# Altium footprint library Conv_buck_R0.PcbLib: 47 footprints (part 2 of 3)
Each footprint in its own frame and in the unit in brackets; x right, y up, seen from the top. Pads: shape width x height; smd on the part's side, far side on the other; paste and mask are expansions set on the pad; w line width, h text height; cw(c..) or ccw(c..) is an arc to the next point about the centre after c.
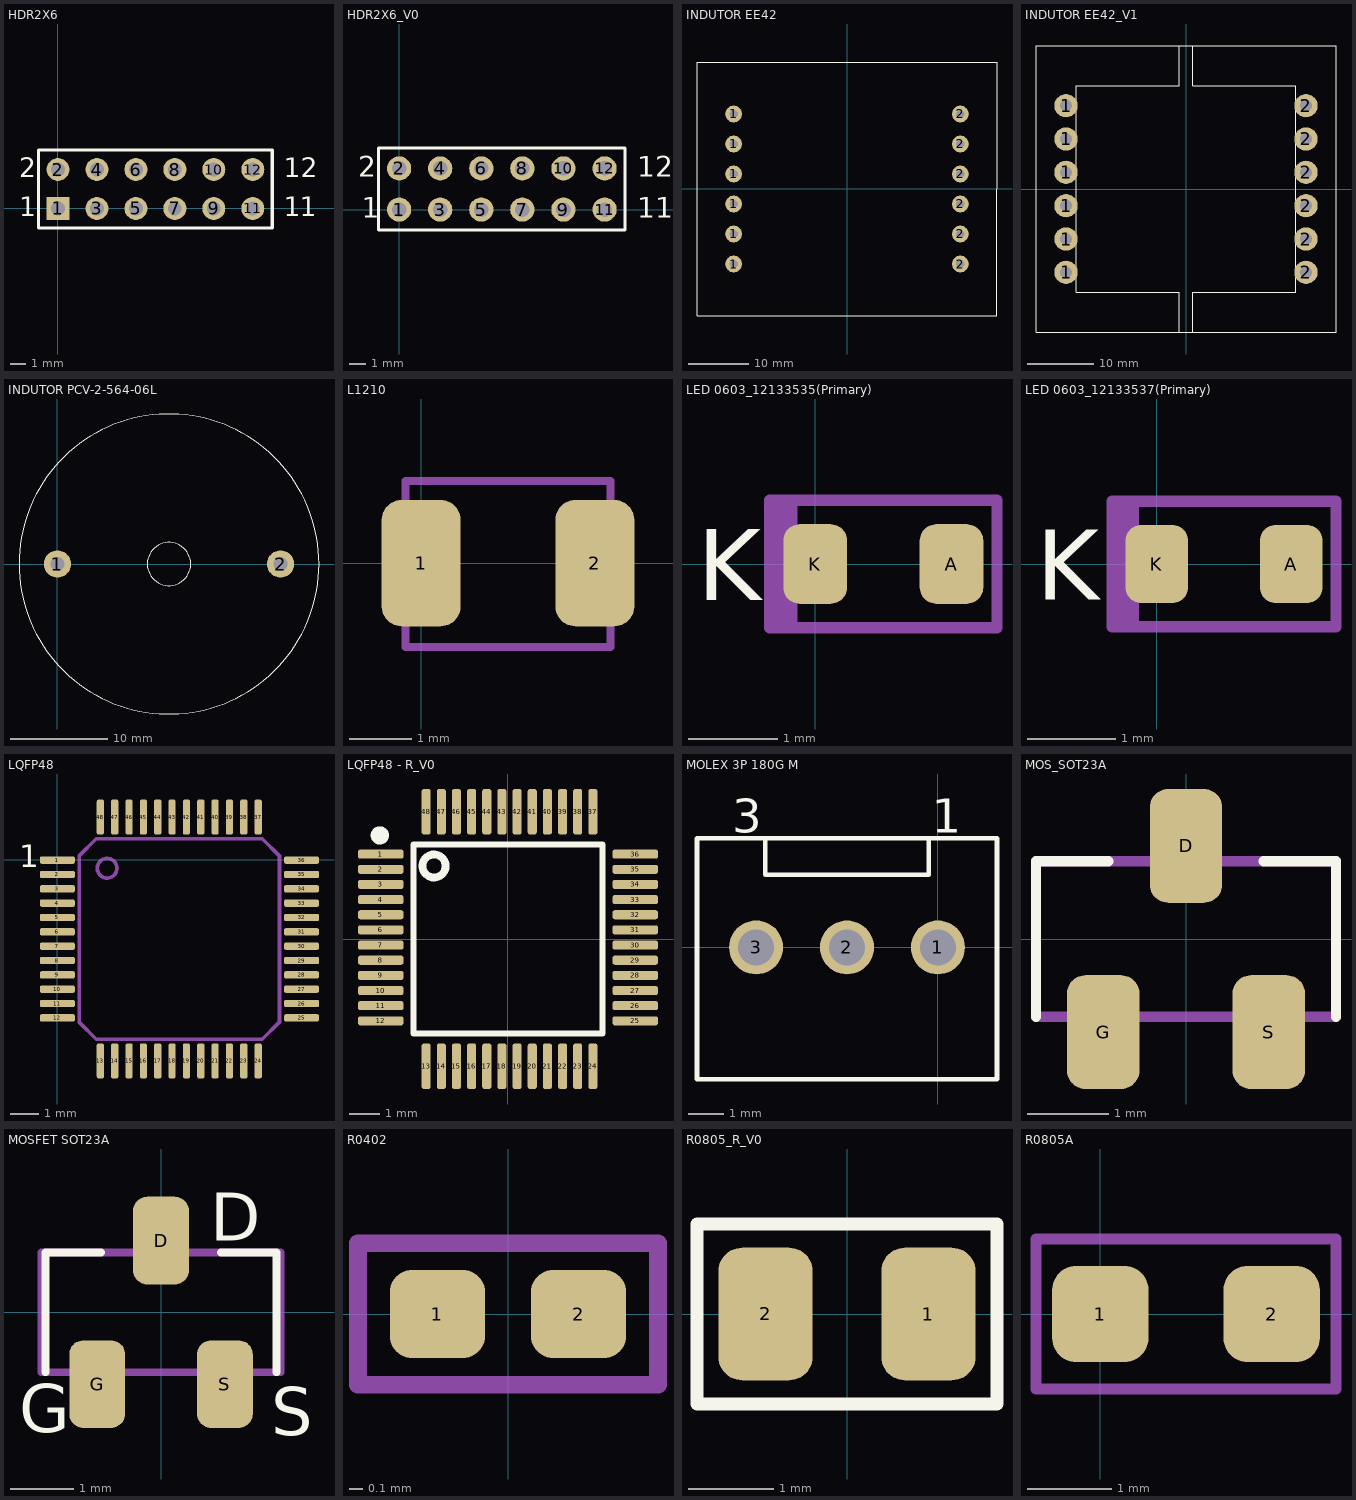
[diagram p1: the footprints below, top view; thin cyan lines are the x and y axes]

## HDR2X6 [mm] "Connector; Header; 6x2 Position"
pads (12):
  rect 1.5x1.5 hole 0.9: 1(0,0)
  round 1.5 hole 0.9: 2(0,2.54) 3(2.54,0) 4(2.54,2.54) 5(5.08,0) 6(5.08,2.54) 7(7.62,0) 8(7.62,2.54) 9(10.16,0) 10(10.16,2.54) 11(12.7,0) 12(12.7,2.54)
Top Overlay:
  lines w0.2: -1.27,-1.27 13.97,-1.27 13.97,3.81 -1.27,3.81 -1.27,-1.27
  text "12" at 14.732,2.032 h1.27
  text "1" at 15.748,-0.508 h1.27
  text "1" at 14.732,-0.508 h1.27
  text "1" at -2.54,-0.508 h1.27
  text "2" at -2.54,2.032 h1.27

## HDR2X6_V0 [mm] "Connector; Header; 6x2 Position"
pads (12):
  round 1.5 hole 0.9: 1(0,0) 2(0,2.54) 3(2.54,0) 4(2.54,2.54) 5(5.08,0) 6(5.08,2.54) 7(7.62,0) 8(7.62,2.54) 9(10.16,0) 10(10.16,2.54) 11(12.7,0) 12(12.7,2.54)
Top Overlay:
  lines w0.2: -1.27,-1.27 13.97,-1.27 13.97,3.81 -1.27,3.81 -1.27,-1.27
  text "12" at 14.732,2.032 h1.27
  text "11" at 14.732,-0.508 h1.27
  text "1" at -2.3,-0.5 h1.27
  text "2" at -2.54,2.032 h1.27
3D body: height 8.8, standoff -3, extent -1.22,-1.2 14.02,3.8

## INDUTOR EE42 [mm]
pads (12):
  round 2.794 hole 1.4: 1(-18.9,-12.5) 1(-18.9,-7.5) 1(-18.9,-2.5) 1(-18.9,2.5) 1(-18.9,7.5) 1(-18.9,12.5) 2(18.9,-12.5) 2(18.9,-7.5) 2(18.9,-2.5) 2(18.9,2.5) 2(18.9,7.5) 2(18.9,12.5)
Top Overlay:
  lines w0.127: -25,-21.1 25,-21.1 25,21.1 -25,21.1 -25,-21.1
3D body: height 25, standoff 10, extent -25,-21.1 25,21.1
3D body: height 34.97, standoff 5.03, extent -14,-14.982 14,14.9
3D body: height 35, standoff 2, extent -19.9,-15.6 -14.2,15.4
3D body: height 35, standoff 2, extent 14.2,-15.6 19.9,15.4

## INDUTOR EE42_V1 [mm]
pads (12):
  round 3.5 hole 1.8: 1(-18,-12.5) 1(-18,-7.5) 1(-18,-2.5) 1(-18,2.5) 1(-18,7.5) 1(-18,12.5) 2(18,-12.5) 2(18,-7.5) 2(18,-2.5) 2(18,2.5) 2(18,7.5) 2(18,12.5)
Top Overlay:
  lines w0.127: -11.5,21.5 -22.5,21.5 ; -1,-21.5 -1,-15.5 -16.5,-15.5 -16.5,15.5 -1,15.5 -1,21.5 ; 1,-21.5 1,-15.5 16.5,-15.5 16.5,15.5 1,15.5 1,21.5 ; -22.5,21.5 -22.5,-21.5 22.5,-21.5 22.5,21.5 -22.5,21.5
3D body: height 8, standoff -4, extent -18.25,-13 -17.75,-12
3D body: height 25, standoff 10, extent 1,-21.5 22.5,21.5
3D body: height 35, standoff 2, extent 14.2,-15.6 19.9,15.4
3D body: height 35, standoff 2, extent -19.9,-15.6 -14.2,15.4
3D body: height 32.49, standoff 7.51, extent -14,-12.514 14,12.486
3D body: height 25, standoff 10, extent -22.5,-21.5 -1,21.5
3D body: height 8, standoff -4, extent -18.25,-8 -17.75,-7
3D body: height 8, standoff -4, extent -18.25,-3 -17.75,-2
3D body: height 8, standoff -4, extent -18.25,2 -17.75,3
3D body: height 8, standoff -4, extent -18.25,7 -17.75,8
3D body: height 8, standoff -4, extent -18.25,12 -17.75,13
3D body: height 8, standoff -4, extent 17.75,12 18.25,13
3D body: height 8, standoff -4, extent 17.75,7 18.25,8
3D body: height 8, standoff -4, extent 17.75,2 18.25,3
3D body: height 8, standoff -4, extent 17.75,-3 18.25,-2
3D body: height 8, standoff -4, extent 17.75,-8 18.25,-7
3D body: height 8, standoff -4, extent 17.75,-13 18.25,-12

## INDUTOR PCV-2-564-06L [mil]
pads (2):
  round 110 hole 55.12: 1(0,0) 2(900,0)
Top Overlay:
  circle w5: c450,0 r605
  circle w5: c450,0 r87.5
3D body: height 1114.17, standoff -279.53, extent -155.92,-603.92 1053.92,605.92

## L1210 [mil] "Indutor SMD"
pads (2):
  rrect50% 50x80 smd: 1(0,0) 2(110,0)
Mechanical 4:
  lines w5: -10,-53 120,-53 120,52 -10,52 -10,-53
3D body: height 98.43, standoff 0, extent -7.99,-50.21 118,48.22

## LED 0603_12133535(Primary) [mil]
pads (2):
  rrect50% 28x35 smd: A(60,0) K(0,0)
Top Overlay:
  text "K" at -52,-16 h31.25
Mechanical 4:
  region: -21,-29 -8,-29 -8,29 -21,29
  lines w5: -20,-28 80,-28 80,28 -20,28 -20,-28
3D body: height 35.43, standoff 0, extent -3.46,-17.71 63.47,17.72

## LED 0603_12133537(Primary) [mil]
pads (2):
  rrect50% 28x35 smd: A(60,0) K(0,0)
Top Overlay:
  text "K" at -54,-16 h31.25
Mechanical 4:
  region: -21,-29 -8,-29 -8,29 -21,29
  lines w5: -20,-28 80,-28 80,28 -20,28 -20,-28
3D body: height 35.43, standoff 0, extent -2.47,-17.71 64.46,17.72

## LQFP48 [mil]
pads (48):
  rrect50% 48x10 smd: 1(0.15,-0.2) 2(0.15,-19.89) 3(0.15,-39.57) 4(0.15,-59.26) 5(0.15,-78.94) 6(0.15,-98.63) 7(0.15,-118.31) 8(0.15,-138) 9(0.15,-157.69) 10(0.15,-177.37) 11(0.15,-197.06) 12(0.15,-216.74) 25(335.3,-216.74) 26(335.3,-197.06) 27(335.3,-177.37) 28(335.3,-157.69) 29(335.3,-138) 30(335.3,-118.31) 31(335.3,-98.63) 32(335.3,-78.94) 33(335.3,-59.26) 34(335.3,-39.57) 35(335.3,-19.89) 36(335.3,-0.2)
  rrect50% 10x48 smd: 13(59.2,-275.8) 14(78.89,-275.8) 15(98.57,-275.8) 16(118.26,-275.8) 17(137.94,-275.8) 18(157.63,-275.8) 19(177.31,-275.8) 20(197,-275.8) 21(216.69,-275.8) 22(236.37,-275.8) 23(256.06,-275.8) 24(275.74,-275.8) 37(275.74,58.85) 38(256.06,58.85) 39(236.37,58.85) 40(216.69,58.85) 41(197,58.85) 42(177.31,58.85) 43(157.63,58.85) 44(137.94,58.85) 45(118.26,58.85) 46(98.57,58.85) 47(78.89,58.85) 48(59.2,58.85)
Top Overlay:
  text "1" at -52.5,-10 h31.25
Mechanical 4:
  circle w5: c68.44,-11.33 r13.56
  lines w5: 30,-222.5 53.5,-246 281.5,-246 305,-222.5 305,5.5 281.5,29 53.5,29 30,5.5 30,-222.5
3D body: height 62.97, standoff 0, extent -9.6,-285.63 344.73,68.7

## LQFP48 - R_V0 [mm] "DSP ST"
pads (48):
  rrect50% 1.5x0.3 smd: 1(-4.2,2.8) 2(-4.2,2.3) 3(-4.2,1.8) 4(-4.2,1.3) 5(-4.2,0.8) 6(-4.2,0.3) 7(-4.2,-0.2) 8(-4.2,-0.7) 9(-4.2,-1.2) 10(-4.2,-1.7) 11(-4.2,-2.2) 12(-4.2,-2.7) 25(4.2,-2.7) 26(4.2,-2.2) 27(4.2,-1.7) 28(4.2,-1.2) 29(4.2,-0.7) 30(4.2,-0.2) 31(4.2,0.3) 32(4.2,0.8) 33(4.2,1.3) 34(4.2,1.8) 35(4.2,2.3) 36(4.2,2.8)
  rrect50% 0.3x1.5 smd: 13(-2.7,-4.2) 14(-2.2,-4.2) 15(-1.7,-4.2) 16(-1.2,-4.2) 17(-0.7,-4.2) 18(-0.2,-4.2) 19(0.3,-4.2) 20(0.8,-4.2) 21(1.3,-4.2) 22(1.8,-4.2) 23(2.3,-4.2) 24(2.8,-4.2) 37(2.8,4.2) 38(2.3,4.2) 39(1.8,4.2) 40(1.3,4.2) 41(0.8,4.2) 42(0.3,4.2) 43(-0.2,4.2) 44(-0.7,4.2) 45(-1.2,4.2) 46(-1.7,4.2) 47(-2.2,4.2) 48(-2.7,4.2)
Top Overlay:
  circle w0.3: c-4.23,3.42 r0.15
  circle w0.254: c-2.441,2.41 r0.381
  lines w0.2: -3.125,-3.125 -3.125,3.125 3.125,3.125 3.125,-3.125 -3.125,-3.125

## MOLEX 3P 180G M [mil]
pads (3):
  round 59.5 hole 39.37: 1(0,0) 2(-100,0) 3(-200,0)
Top Overlay:
  lines w5: -190,120 -190,80 -10,80 -10,120 ; -265,-145 65,-145 65,120 -265,120 -265,-145
  text "3" at -226,126 h37.5
  text "1" at -7,126 h37.5
Mechanical 4:
  lines w5: -210,-10 -210,10 -190,10 -190,-10 -210,-10 ; -110,-10 -90,-10 -90,10 -110,10 -110,-10 ; -10,-10 -10,10 10,10 10,-10 -10,-10
3D body: height 452.76, standoff -125.99, extent -263.19,-118.22 63.19,118

## MOS_SOT23A [mil]
pads (3):
  rrect50% 35x55 smd: D(0,45) G(-40,-45) S(40,-45)
Top Overlay:
  lines w5: -72.5,-37.5 -72.5,37.5 -37.5,37.5 ; 37.5,37.5 72.5,37.5 72.5,-37.5
Mechanical 4:
  lines w5: -72.5,-37.5 72.5,-37.5 72.5,37.5 -72.5,37.5 -72.5,-37.5
3D body: height 51.18, standoff 0, extent -57.09,-55.12 57.09,55.12

## MOSFET SOT23A [mil]
pads (3):
  rrect50% 35x55 smd: D(0,45) G(-40,-45) S(40,-45)
Top Overlay:
  lines w5: -72.5,-37.5 -72.5,37.5 -37.5,37.5 ; 37.5,37.5 72.5,37.5 72.5,-37.5
  text "G" at -89,-75 h30
  text "S" at 69,-77 h30
  text "D" at 31,45 h30
Mechanical 4:
  lines w5: -75,-37.5 -75,37.5 75,37.5 75,-37.5 -75,-37.5
3D body: height 51.18, standoff 0, extent -57.09,-55.12 57.09,55.12

## R0402 [mil]
pads (2):
  rrect50% 27x25 smd: 1(-20,0) 2(20,0)
Mechanical 4:
  lines w5: -42.5,-20 -42.5,20 42.5,20 42.5,-20 -42.5,-20
3D body: height 20.03, standoff -0.07, extent -19.99,-9.99 20.01,10.01

## R0805_R_V0 [mm] "IPC"
pads (2):
  rrect50% 1.1x1.55 smd: 1(0.95,0) 2(-0.95,0)
Top Overlay:
  lines w0.15: -1.75,-1.05 1.75,-1.05 1.75,1.05 -1.75,1.05 -1.75,-1.05
3D body: height 0.78, standoff 0, extent -1.016,-0.635 0.984,0.615

## R0805A [mil]
pads (2):
  rrect50% 45x45 smd: 1(0,0) 2(80,0)
Mechanical 4:
  lines w5: -30,-35 -30,35 110,35 110,-35 -30,-35
3D body: height 30.79, standoff 0, extent 0.64,-24.6 79.38,24.61